# Altium footprint library ACS_PCBLib.PcbLib: 14 footprints
Each footprint in its own frame and in the unit in brackets; x right, y up, seen from the top. Pads: shape width x height; smd on the part's side, far side on the other; paste and mask are expansions set on the pad; w line width, h text height; cw(c..) or ccw(c..) is an arc to the next point about the centre after c.
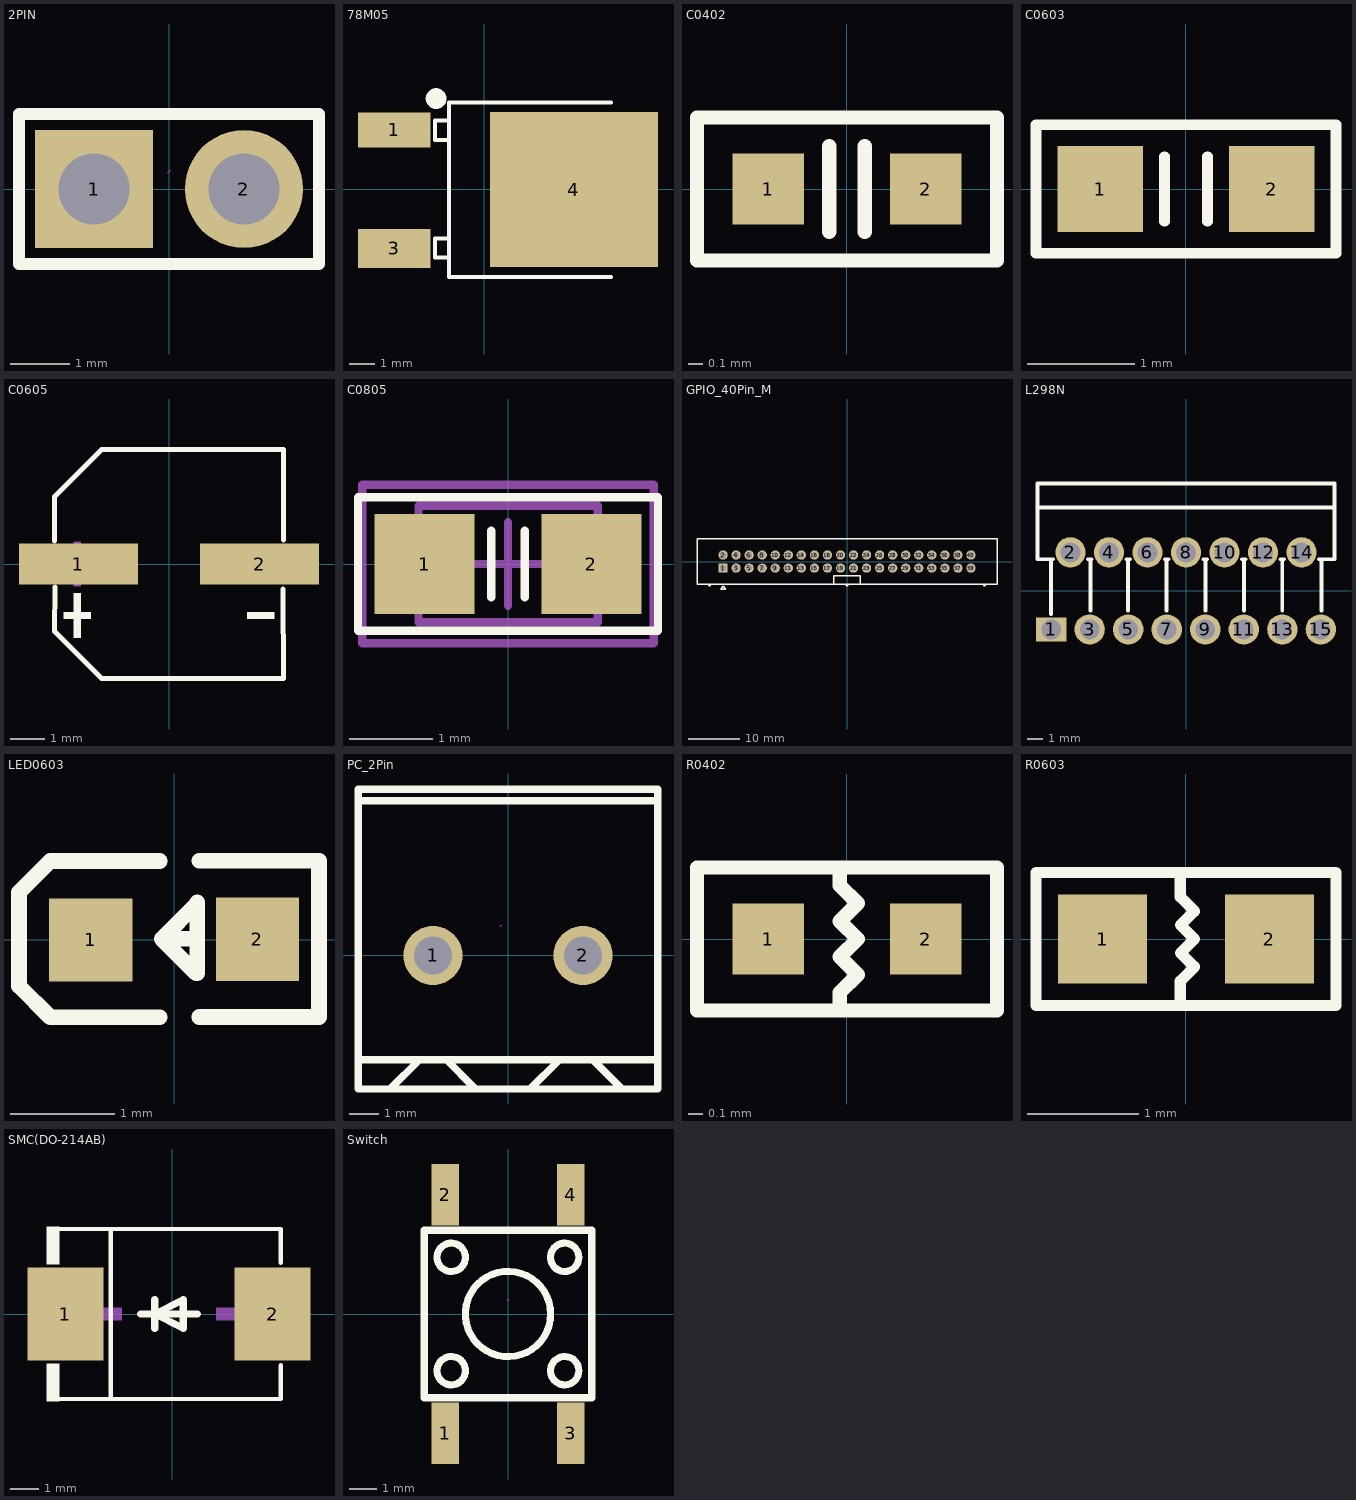
[diagram p0: the footprints below, top view; thin cyan lines are the x and y axes]

## 2PIN [mm]
pads (2):
  rect 2x2 hole 1.2: 1(-1.27,0)
  round 2 hole 1.2: 2(1.27,0)
Top Overlay:
  lines w0.203: -2.54,-1.27 2.54,-1.27 2.54,1.27 -0.635,1.27 -2.54,1.27 -2.54,-1.27
Mechanical 15:
  lines w0.003: -0.025,0.273 0.025,0.324

## 78M05 [mm] "TO-252-2"
pads (3):
  rect 2.8x1.35 smd: 1(-3.475,2.29)
  rect 2.8x1.5 smd: 3(-3.475,-2.29)
  rect 6.5x6 smd: 4(3.475,-0.017)
Top Overlay:
  lines w0.152: -1.348,-2.635 -1.348,-2.645 -1.904,-2.645 -1.904,-1.903 -1.348,-1.903 ; -1.348,1.915 -1.348,1.905 -1.904,1.905 -1.904,2.647 -1.348,2.647 ; 4.903,-3.393 -1.349,-3.393 -1.349,3.359 4.903,3.359
  lines w0.4: -1.857,3.302 cw(c-1.856,3.502) -1.854,3.302
Mechanical 15:
  circle w0.5: c-4.242,2.261 r0.25

## C0402 [mm]
pads (2):
  rect 0.5x0.5 smd: 1(-0.55,0) 2(0.55,0)
Top Overlay:
  lines w0.1: -0.125,-0.3 -0.125,0.3 ; 0.125,-0.3 0.125,0.3 ; -1.05,-0.5 -1.05,0.5 1.05,0.5 1.05,-0.5 -1.05,-0.5
3D body "0402.STEP": height 0.56, standoff 0, extent -0.5,-0.25 0.5,0.25

## C0603 [mm]
pads (2):
  rect 0.8x0.8 smd: 1(-0.8,0) 2(0.8,0)
Top Overlay:
  lines w0.1: -0.2,-0.3 -0.2,0.3 ; 0.2,-0.3 0.2,0.3 ; -1.4,-0.6 1.4,-0.6 1.4,0.6 -1.4,0.6 -1.4,-0.6
3D body "0603.STEP": height 0.9, standoff 0, extent -0.8,-0.405 0.8,0.405

## C0605 [mm] "RVT220UF35V67RV0024"
pads (2):
  rect 3.5x1.2 smd: 1(-2.67,0) 2(2.67,0)
Top Overlay:
  region: 3.102,-1.419 3.102,-1.617 2.31,-1.617 2.31,-1.419
  region: -3.102,-1.419 -3.102,-1.617 -2.31,-1.617 -2.31,-1.419
  region: -2.805,-0.858 -2.805,-2.178 -2.607,-2.178 -2.607,-0.858
  lines w0.152: -3.376,0.686 -3.376,1.98 -1.98,3.376 3.376,3.376 3.369,0.708 ; -3.362,-0.686 -3.376,-1.981 -1.981,-3.376 3.376,-3.376 3.356,-0.739
Mechanical 15:
  region: 3.102,0.099 3.102,-0.099 2.31,-0.099 2.31,0.099
  region: -3.102,0.099 -3.102,-0.099 -2.31,-0.099 -2.31,0.099
  region: -2.805,0.66 -2.805,-0.66 -2.607,-0.66 -2.607,0.66

## C0805 [mm] "Chip Resistor, Body 2.0x1.2mm, IPC Medium Density"
height 0.7
pads (2):
  rect 1.2x1.2 smd: 1(-1,0) 2(1,0)
Top Overlay:
  lines w0.1: -0.2,-0.4 -0.2,0.4 ; 0.2,-0.4 0.2,0.4 ; -1.8,-0.8 -1.8,0.8 1.8,0.8 1.8,-0.8 -1.8,-0.8
Mechanical 13:
  lines w0.1: -1.075,-0.7 -1.075,0.7 1.075,0.7 1.075,-0.7 -1.075,-0.7
Mechanical 15:
  lines w0.1: -0.5,0 0.5,0 ; 0,-0.5 0,0.5 ; -1.75,-0.95 -1.75,0.95 1.75,0.95 1.75,-0.95 -1.75,-0.95
3D body: height 0.7, standoff 0, extent -1.075,-0.7 1.075,0.7

## GPIO_40Pin_M [mm]
pads (40):
  rect 1.8x1.8 hole 1.1: 1(-24.13,-1.27)
  round 1.8 hole 1.1: 2(-24.13,1.27) 3(-21.59,-1.27) 4(-21.59,1.27) 5(-19.05,-1.27) 6(-19.05,1.27) 7(-16.51,-1.27) 8(-16.51,1.27) 9(-13.97,-1.27) 10(-13.97,1.27) 11(-11.43,-1.27) 12(-11.43,1.27) 13(-8.89,-1.27) 14(-8.89,1.27) 15(-6.35,-1.27) 16(-6.35,1.27) 17(-3.81,-1.27) 18(-3.81,1.27) 19(-1.27,-1.27) 20(-1.27,1.27) 21(1.27,-1.27) 22(1.27,1.27) 23(3.81,-1.27) 24(3.81,1.27) 25(6.35,-1.27) 26(6.35,1.27) 27(8.89,-1.27) 28(8.89,1.27) 29(11.43,-1.27) 30(11.43,1.27) 31(13.97,-1.27) 32(13.97,1.27) 33(16.51,-1.27) 34(16.51,1.27) 35(19.05,-1.27) 36(19.05,1.27) 37(21.59,-1.27) 38(21.59,1.27) 39(24.13,-1.27) 40(24.13,1.27)
Top Overlay:
  lines w0.254: -29.2,-4.4 29.2,-4.4 ; -29.2,-4.4 -29.2,4.4 29.2,4.4 29.2,-4.4 ; -26.922,-4.4 -26.922,-4.7 -26.634,-4.7 -26.634,-4.4 ; -0.153,-4.4 -0.153,-4.7 0.136,-4.7 0.136,-4.4 ; 26.66,-4.4 26.66,-4.7 26.948,-4.7 26.948,-4.4 ; -24.615,-5.361 -24.107,-4.853 -23.599,-5.361 -24.615,-5.361 ; -2.54,-4.461 -2.54,-2.81 2.54,-2.81 2.54,-4.461 -2.54,-4.461
Mechanical 15:
  lines w0.003: -0.025,-0.035 0.025,0.015

## L298N [mm] "Multiwatt 15"
pads (15):
  rect 2x1.6 hole 1.3: 1(-8.89,-2.54)
  round 2 hole 1.3: 2(-7.62,2.54) 3(-6.35,-2.54) 4(-5.08,2.54) 5(-3.81,-2.54) 6(-2.54,2.54) 7(-1.27,-2.54) 8(0,2.54) 9(1.27,-2.54) 10(2.54,2.54) 11(3.81,-2.54) 12(5.08,2.54) 13(6.35,-2.54) 14(7.62,2.54) 15(8.89,-2.54)
Top Overlay:
  lines w0.254: -9.8,5.49 9.8,5.49 ; -8.89,-1.524 -8.89,1.954 ; -8.766,2.09 -9.8,2.09 -9.8,7.09 9.8,7.09 9.8,2.09 8.766,2.09 ; -6.474,2.09 -6.226,2.09 ; -6.308,-1.31 -6.308,2.09 ; -3.934,2.09 -3.686,2.09 ; -3.819,-1.31 -3.819,2.09 ; -1.394,2.09 -1.146,2.09 ; -1.279,-1.31 -1.279,2.09 ; 1.146,2.09 1.394,2.09 ; 1.287,-1.31 1.287,2.09 ; 3.686,2.09 3.934,2.09 ; 3.827,-1.31 3.827,2.09 ; 6.226,2.09 6.474,2.09 ; 6.341,-1.31 6.341,2.09 ; 8.932,-1.31 8.932,2.09
Mechanical 15:
  lines w0.003: -0.025,2.3 0.025,2.351

## LED0603 [mm]
pads (2):
  rect 0.8x0.8 smd: 1(-0.799,-0.004) 2(0.799,0.004)
Top Overlay:
  lines w0.15: -0.14,-0.746 -1.19,-0.746 -1.49,-0.446 -1.49,-0.346 -1.49,0.354 -1.49,0.454 -1.19,0.754 -0.14,0.754 ; 0.22,0.007 -0.12,0.007 ; 0.24,-0.744 1.39,-0.744 ; 0.24,0.757 1.39,0.757 1.39,-0.723 ; -0.12,0.007 0.21,-0.324 0.22,-0.324 0.22,0.356 0.22,0.347 -0.12,0.007
Mechanical 15:
  region: -1.07,0.061 -0.53,0.061 -0.53,-0.069 -1.07,-0.069
  region: 0.735,-0.267 0.735,0.273 0.865,0.273 0.865,-0.267
  region: 0.529,0.068 1.069,0.068 1.069,-0.062 0.529,-0.062

## PC_2Pin [mm]
pads (2):
  round 2 hole 1.3: 1(-2.54,0) 2(2.54,0)
Top Overlay:
  lines w0.254: -5.08,-4.52 -5.08,5.64 ; -5.065,5.243 5.08,5.243 ; -5.054,-4.522 5.08,-4.522 5.08,5.638 -5.054,5.638 ; -5.036,-3.531 5.08,-3.531 ; -3.97,-4.5 -3.01,-3.54 ; -2.08,-3.54 -1.12,-4.5 ; 0.75,-4.518 1.71,-3.558 ; 2.9,-3.558 3.86,-4.518
Mechanical 15:
  lines w0.003: -0.262,0.984 -0.211,1.034

## R0402 [mm]
pads (2):
  rect 0.5x0.5 smd: 1(-0.55,0) 2(0.55,0)
Top Overlay:
  lines w0.1: -0.05,-0.5 -0.05,-0.375 0.075,-0.25 -0.05,-0.125 0.075,0 -0.05,0.125 0.075,0.25 -0.05,0.375 -0.05,0.5 ; -1.05,-0.5 1.05,-0.5 1.05,0.5 -1.05,0.5 -1.05,-0.5
3D body "0402.STEP": height 0.56, standoff 0, extent -0.5,-0.25 0.5,0.25

## R0603 [mm]
pads (2):
  rect 0.8x0.8 smd: 1(-0.75,0) 2(0.75,0)
Top Overlay:
  lines w0.1: -0.051,-0.6 -0.051,-0.376 0.075,-0.25 -0.05,-0.125 0.075,0 -0.05,0.125 0.075,0.25 -0.051,0.376 -0.051,0.6 ; 1.347,-0.6 -1.35,-0.6 -1.35,0.6 1.347,0.6 ; 1.35,-0.6 1.35,0.6
3D body "0603.STEP": height 0.9, standoff 0, extent -0.8,-0.405 0.8,0.405

## SMC(DO-214AB) [mm]
pads (2):
  rect 2.7x3.3 smd: 1(-3.81,0) 2(3.563,0)
Top Overlay:
  region: -4.024,-3.102 -4.024,-1.772 -4.481,-1.772 -4.481,-3.102
  region: -4.024,3.102 -4.024,1.772 -4.481,1.772 -4.481,3.102
  lines w0.152: -4.1,-3.026 3.853,-3.026 3.853,-1.823 ; -4.1,3.026 3.853,3.026 3.853,1.823 ; -2.193,-3.026 -2.193,3.026
  lines w0.254: -1.14,0 0.892,0 ; -0.632,0.508 -0.632,-0.508 -0.632,0 ; -0.632,0 0.384,0.508 0.384,-0.508 -0.632,0
Mechanical 15:
  region: 2.67,-1.475 2.67,1.475 2.228,1.475 2.228,-1.475
  region: 3.334,-0.221 3.334,0.221 1.564,0.221 1.564,-0.221
  region: -3.581,-0.221 -3.581,0.221 -1.811,0.221 -1.811,-0.221

## Switch [mm]
pads (4):
  rect 0.98x2.2 smd: 1(-2.25,-4.275) 2(-2.25,4.275) 3(2.25,-4.275) 4(2.25,4.275)
Top Overlay:
  circle w0.254: c2.03,2.03 r0.508
  circle w0.254: c2.032,-2.032 r0.508
  circle w0.254: c-2.032,2.032 r0.508
  circle w0.254: c-2.032,-2.032 r0.508
  circle w0.254: c0,0 r1.529
  lines w0.254: -3,-3 -3,3 3,3 3,-3 -3,-3
Mechanical 15:
  lines w0.003: -0.025,0.494 0.025,0.545